# Altium footprint library Stamp_UWB.PcbLib: 1 footprints
Each footprint in its own frame and in the unit in brackets; x right, y up, seen from the top. Pads: shape width x height; smd on the part's side, far side on the other; paste and mask are expansions set on the pad; w line width, h text height; cw(c..) or ccw(c..) is an arc to the next point about the centre after c.
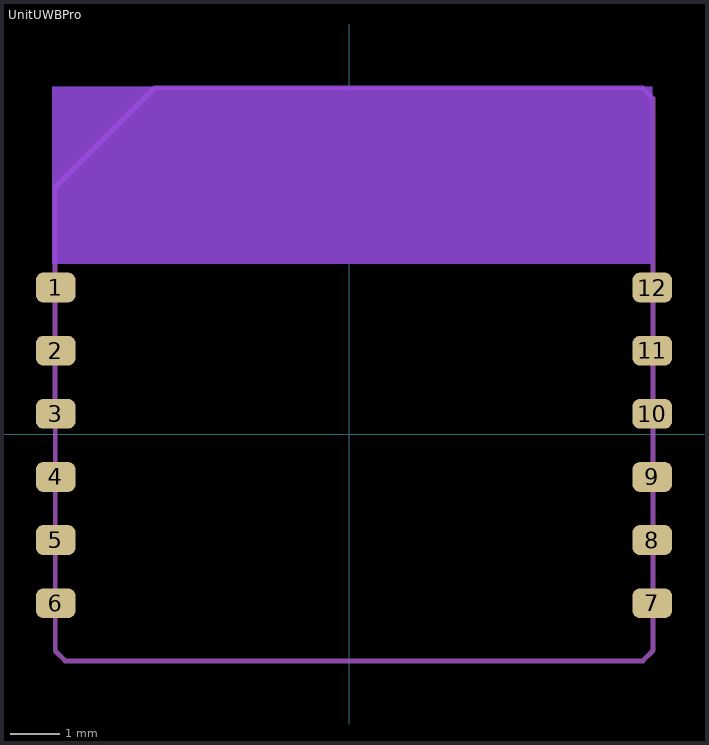
[diagram p0: the footprint, top view; thin cyan lines are the x and y axes]

## UnitUWBPro [mm]
pads (12):
  rrect50% 0.8x0.6 smd: 1(-5.9,2.95) 2(-5.9,1.68) 3(-5.9,0.41) 4(-5.9,-0.86) 5(-5.9,-2.13) 6(-5.9,-3.4) 7(6.1,-3.4) 8(6.1,-2.13) 9(6.1,-0.86) 10(6.1,0.41) 11(6.1,1.68) 12(6.1,2.95)
Top Layer keep-out:
  rectangle: -5.969,3.429 6.096,6.985
Bottom Layer keep-out:
  region: -5.969,6.985 -5.969,3.429 6.096,3.429 6.096,6.985
Mechanical 2:
  lines w0.1: -5.913,4.963 -5.909,-4.359 -5.709,-4.559 -5.7,-4.563 5.9,-4.563 5.909,-4.559 6.109,-4.359 6.113,-4.35 6.113,6.75 6.109,6.759 5.909,6.959 5.9,6.963 -3.913,6.963 -5.913,4.963
3D body "temple.step": height 1.1, standoff -0.01, extent -5.886,-4.537 6.14,6.989